# Altium schematic symbol library SCH - POWER - LINEAR VREG - TI LP2982AIM5-3.0.SchLib: 1 symbol
Pins are listed as number, name and electrical type; pins without a type are passive.

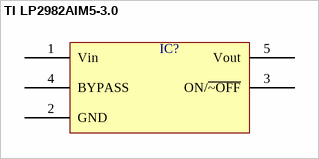
[diagram p0: symbol TI LP2982AIM5-3.0]

## TI LP2982AIM5-3.0
designator IC?  (value not drawn)
pins: 1 Vin, 2 GND, 3 ON/~{~OFF}, 4 BYPASS, 5 Vout